# EAGLE library part 610X18243021 (library Board-to-Board (rev18a))
WR-PHD 2.54mm SMT Dual Socket Header Bottom Entry, 18 Pins=>Code : Con_BTB_SHD_2.54_2_610x18243021(packageing:x = 0: Tube x = 3: Tape & Reel with Cap) <http://katalog.we-online.de/media/images/eican/Con_BTB_SHD_2.54_2_6100xx243021_pf2.jpg> Details see: 6100xx243021 http://katalog.we-online.de/en/em/PHD_2_54_SMT_DUAL_SOCKET_HEADER_BOTTOM_ENTRY_6100XX243021 6103xx243021 http://katalog.we-online.de/en/em/PHD_2_54_SMT_DUAL_SOCKET_HEADER_BOTTOM_ENTRY_6103XX243021 2014 (C) Würth Elektronik
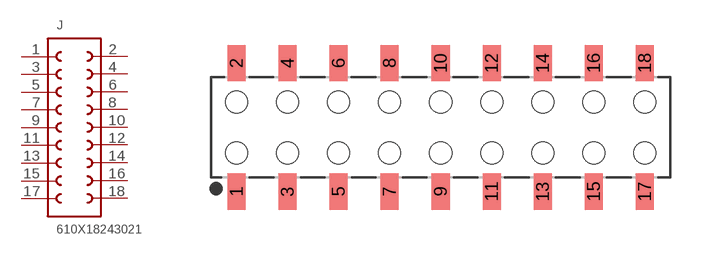
[diagram p181: symbol with the pads of 610X18243021; footprint 610X18243021]

Designator prefix J

## 610X18243021  [610X18243021]
1  1  pas
2  18  pas
3  2  pas
4  17  pas
5  3  pas
6  16  pas
7  4  pas
8  15  pas
9  5  pas
10  14  pas
11  6  pas
12  13  pas
13  7  pas
14  12  pas
15  8  pas
16  11  pas
17  9  pas
18  10  pas

## Footprint 610X18243021 (pad centres in mm)
WR-PHD 2.54mm SMT Dual Socket Header Bottom Entry, 18 Pins
smd 0.9 x 1.8: 1 -10.16,-3.2; 2 -10.16,3.2; 3 -7.62,-3.2; 4 -7.62,3.2; 5 -5.08,-3.2; 6 -5.08,3.2; 7 -2.54,-3.2; 8 -2.54,3.2; 9 0,-3.2; 10 0,3.2; 11 2.54,-3.2; 12 2.54,3.2; 13 5.08,-3.2; 14 5.08,3.2; 15 7.62,-3.2; 16 7.62,3.2; 17 10.16,-3.2; 18 10.16,3.2
hole 1.1 at -10.16,1.27
hole 1.1 at -7.62,1.27
hole 1.1 at -7.62,-1.27
hole 1.1 at -10.16,-1.27
hole 1.1 at -5.08,1.27
hole 1.1 at -5.08,-1.27
hole 1.1 at -2.54,1.27
hole 1.1 at -2.54,-1.27
hole 1.1 at 0,-1.27
hole 1.1 at 0,1.27
hole 1.1 at 2.54,1.27
hole 1.1 at 2.54,-1.27
hole 1.1 at 5.08,-1.27
hole 1.1 at 5.08,1.27
hole 1.1 at 7.62,1.27
hole 1.1 at 7.62,-1.27
hole 1.1 at 10.16,1.27
hole 1.1 at 10.16,-1.27